# Altium schematic symbol library TR_PNP_DARLINGTON.SchLib: 1 symbol
Pins are listed as number, name and electrical type; pins without a type are passive.

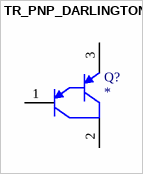
[diagram p0: symbol TR_PNP_DARLINGTON]

## TR_PNP_DARLINGTON
designator Q?
pins: 1 B, 2 C, 3 E